# Altium schematic symbol library STSPIN32G4.SchLib: 1 symbol
Pins are listed as number, name and electrical type; pins without a type are passive.

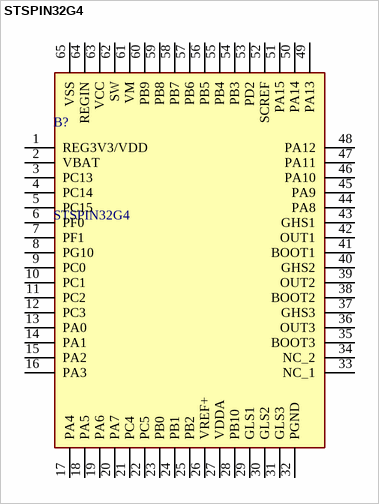
[diagram p0: symbol STSPIN32G4]

## STSPIN32G4
designator B?
High performance 3-phase motor controller with embedded STM32G4 MCU; Manufacturer_Name: STMicroelectronics; Geometry.Height: 1mm; Mouser Part Number: 511-STSPIN32G4; Mouser Price/Stock: https://www.mouser.co.uk/ProductDetail/STMicroelectronics/STSPIN32G4?qs=DRkmTr78QAT8JT82Qbof2g%3D%3D; Manufacturer_Part_Number: STSPIN32G4; Datasheet Link: https://www.st.com/resource/en/datasheet/stspin32g4.pdf
footprint QFN50P900X900X100-65N-D
pins: 1 REG3V3/VDD, 2 VBAT, 3 PC13, 4 PC14, 5 PC15, 6 PF0, 7 PF1, 8 PG10, 9 PC0, 10 PC1, 11 PC2, 12 PC3, 13 PA0, 14 PA1, 15 PA2, 16 PA3, 17 PA4, 18 PA5, 19 PA6, 20 PA7, 21 PC4, 22 PC5, 23 PB0, 24 PB1, 25 PB2, 26 VREF+, 27 VDDA, 28 PB10, 29 GLS1, 30 GLS2, 31 GLS3, 32 PGND, 33 NC_1, 34 NC_2, 35 BOOT3, 36 OUT3, 37 GHS3, 38 BOOT2, 39 OUT2, 40 GHS2, 41 BOOT1, 42 OUT1, 43 GHS1, 44 PA8, 45 PA9, 46 PA10, 47 PA11, 48 PA12, 49 PA13, 50 PA14, 51 PA15, 52 SCREF, 53 PD2, 54 PB3, 55 PB4, 56 PB5, 57 PB6, 58 PB7, 59 PB8, 60 PB9, 61 VM, 62 SW, 63 VCC, 64 REGIN, 65 VSS